# EAGLE library part 0955012661 (library Deegou_Connector)
Conn RJ-12 F 6 POS 2.54mm Solder RA Thru-Hole 6 Terminal 1 Port Tray Cat 3
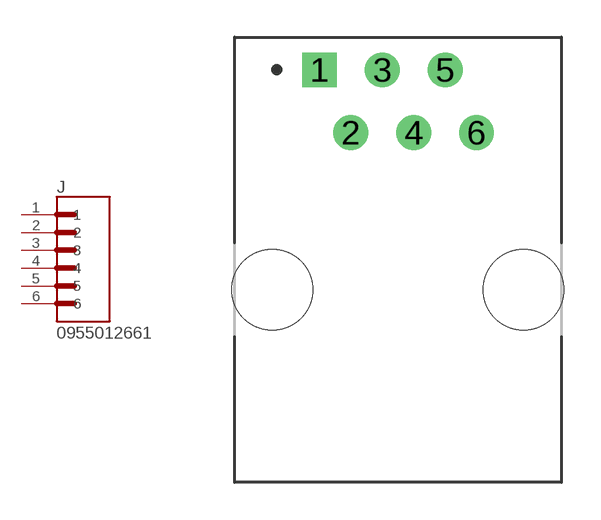
[diagram p22: symbol with the pads of MOLEX_0955012661; footprint MOLEX_0955012661]

Designator prefix J

## 0955012661 (DESCRIPTION: Conn RJ-12 F 6 POS 2.54mm Solder RA Thru-Hole 6 Terminal 1 Port Tray Cat 3; DIGI-KEY_PART_NUMBER: WM5570-ND; DIGI-KEY_PURCHASE_URL: https://www.digikey.com/product-detail/en/molex-llc/0955012661/WM5570-ND/1835862?WT.z_cid=ref_snapeda&utm_source=snapeda&utm_medium=aggregator&utm_campaign=buynow; MF: Molex; MP: 0955012661; PACKAGE: None)  [MOLEX_0955012661]
1  1  pas
2  2  pas
3  3  pas
4  4  pas
5  5  pas
6  6  pas

## Footprint MOLEX_0955012661 (pad centres in mm)
drill 0.9 square: 1 -3.175,8.89
drill 0.9: 2 -1.905,6.35; 3 -0.635,8.89; 4 0.635,6.35; 5 1.905,8.89; 6 3.175,6.35
hole 3.25 at -5.08,0
hole 3.25 at 5.08,0